# EAGLE library part RN-42 (library EN42-I Bluetooth Module)
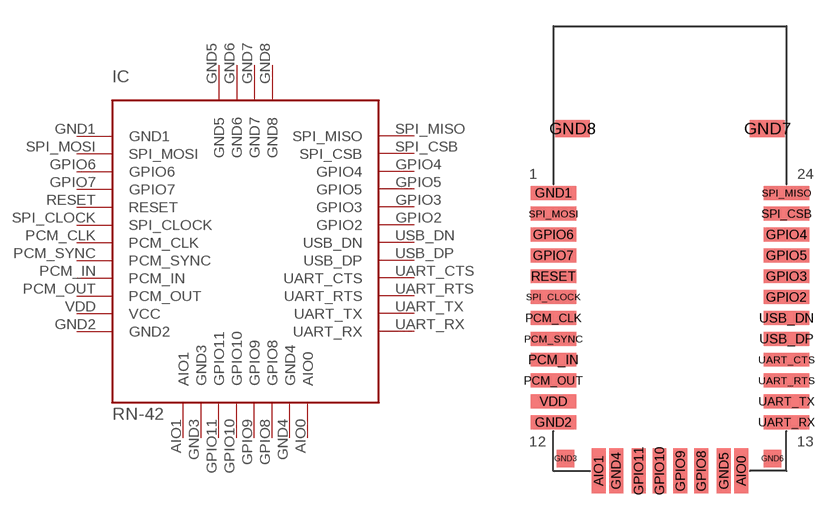
[diagram p0: symbol with the pads of RN-42; footprint RN-42]

Designator prefix IC

## RN-42  [RN-42]
AIO0  AIO0
AIO1  AIO1
GND1  GND1
GND2  GND2
GND3  GND3
GND4  GND4
GND5  GND5
GND6  GND6
GND7  GND7
GND8  GND8
GPIO2  GPIO2
GPIO3  GPIO3
GPIO4  GPIO4
GPIO5  GPIO5
GPIO6  GPIO6
GPIO7  GPIO7
GPIO8  GPIO8
GPIO9  GPIO9
GPIO10  GPIO10
GPIO11  GPIO11
PCM_CLK  PCM_CLK  nc
PCM_IN  PCM_IN  nc
PCM_OUT  PCM_OUT  nc
PCM_SYNC  PCM_SYNC  nc
RESET  RESET
SPI_CLOCK  SPI_CLOCK  nc
SPI_CSB  SPI_CSB  nc
SPI_MISO  SPI_MISO  nc
SPI_MOSI  SPI_MOSI  nc
UART_CTS  UART_CTS
UART_RTS  UART_RTS
UART_RX  UART_RX  in
UART_TX  UART_TX  out
USB_DN  USB_DN
USB_DP  USB_DP
VDD  VCC  pwr

## Footprint RN-42 (pad centres in mm)
smd 0.8 x 2.6: AIO0 10.8,0; AIO1 2.6,0; GND4 3.6,0; GND5 9.8,0; GPIO8 8.5,0; GPIO9 7.3,0; GPIO10 6.1,0; GPIO11 4.9,0
smd 2.6 x 0.8: GND1 0,16; GND2 0,2.8; GPIO2 13.4,10; GPIO3 13.4,11.2; GPIO4 13.4,13.6; GPIO5 13.4,12.4; GPIO6 0,13.6; GPIO7 0,12.4; PCM_CLK 0,8.8; PCM_IN 0,6.4; PCM_OUT 0,5.2; PCM_SYNC 0,7.6; RESET 0,11.2; SPI_CLOCK 0,10; SPI_CSB 13.4,14.8; SPI_MISO 13.4,16; SPI_MOSI 0,14.8; UART_CTS 13.4,6.4; UART_RTS 13.4,5.2; UART_RX 13.4,2.8; UART_TX 13.4,4; USB_DN 13.4,8.8; USB_DP 13.4,7.6; VDD 0,4
smd 1 x 1: GND3 0.7,0.7; GND6 12.6,0.7
smd 2 x 1: GND7 12.3,19.7; GND8 1.1,19.7